# Altium footprint library SensWearComponents.PcbLib: 56 footprints (part 2 of 4)
Each footprint in its own frame and in the unit in brackets; x right, y up, seen from the top. Pads: shape width x height; smd on the part's side, far side on the other; paste and mask are expansions set on the pad; w line width, h text height; cw(c..) or ccw(c..) is an arc to the next point about the centre after c.
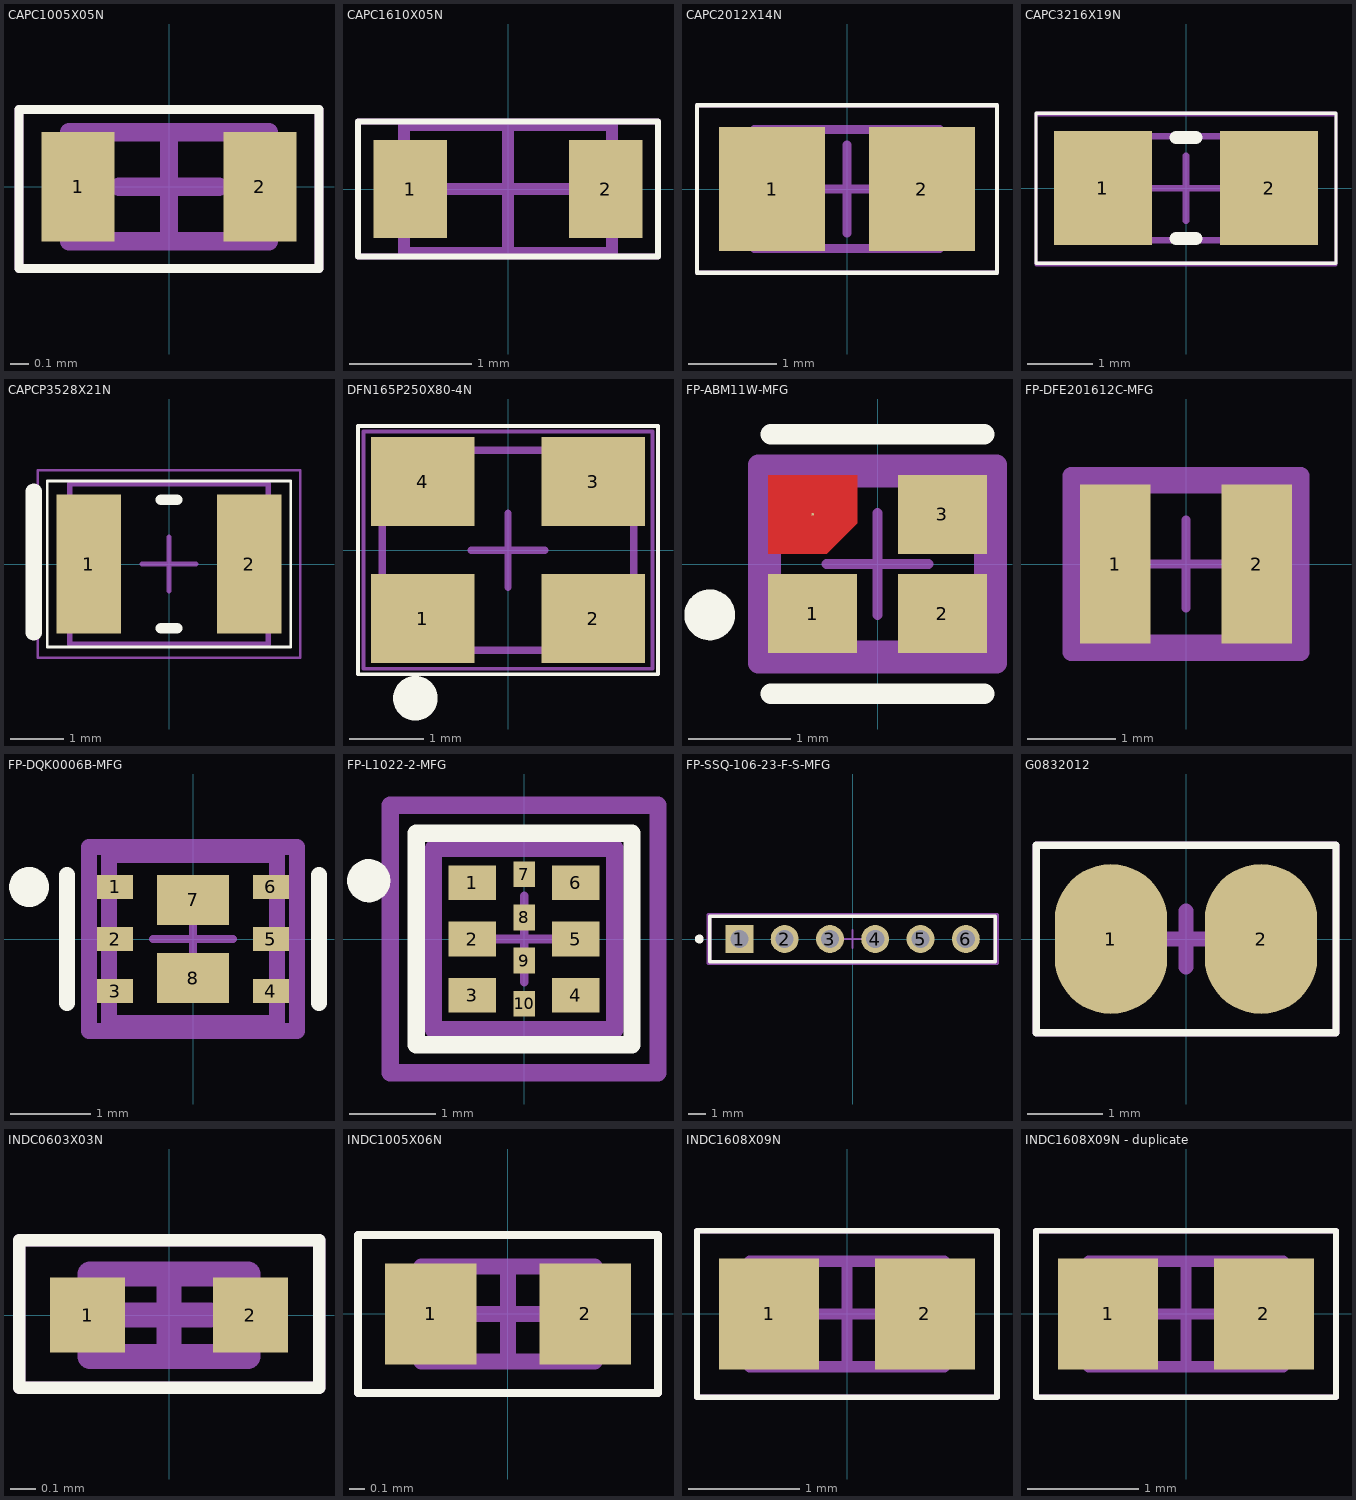
[diagram p1: the footprints below, top view; thin cyan lines are the x and y axes]

## CAPC1005X05N [mm] "Chip Capacitor, 2-Leads, Body 1.00x0.50mm, IPC Medium Density"
height 0.5
pads (2):
  rect 0.4x0.6 smd: 1(-0.5,0) 2(0.5,0)
Top Overlay:
  lines w0.05: -0.825,-0.45 -0.825,0.425 0.825,0.425 0.825,-0.45 -0.825,-0.45
Top Assembly:
  lines w0.05: -0.825,-0.45 0.825,-0.45 0.825,0.425 -0.825,0.425 -0.825,-0.45
  lines w0.1: -0.275,0 0.275,0 ; 0,-0.275 0,0.275
Top 3D Body:
  lines w0.1: -0.55,-0.3 -0.55,0.3 0.55,0.3 0.55,-0.3 -0.55,-0.3
Top Courtyard:
  lines w0.05: -0.825,-0.45 0.825,-0.45 0.825,0.425 -0.825,0.425 -0.825,-0.45
  text ".Designator" at -0.627,-0.116 h0.4
3D body "CAPC1005X06N.step": height 0.6, standoff 0, extent -0.55,-0.3 0.55,0.3

## CAPC1610X05N [mm] "Chip Capacitor, 2-Leads, Body 1.60x1.00mm, IPC Medium Density"
height 0.5
pads (2):
  rect 0.6x0.8 smd mask+0.05: 1(-0.8,0) 2(0.8,0)
Top Overlay:
  lines w0.05: -1.225,-0.55 -1.225,0.55 1.225,0.55 1.225,-0.55 -1.225,-0.55
Top Assembly:
  lines w0.05: -1.225,-0.55 1.225,-0.55 1.225,0.55 -1.225,0.55 -1.225,-0.55
  lines w0.1: -0.5,0 0.5,0 ; 0,-0.5 0,0.5
Top 3D Body:
  lines w0.1: -0.85,-0.525 -0.85,0.525 0.85,0.525 0.85,-0.525 -0.85,-0.525
Top Courtyard:
  lines w0.05: -1.225,-0.55 1.225,-0.55 1.225,0.55 -1.225,0.55 -1.225,-0.55
  text ".Designator" at -1.024,-0.113 h0.5
3D body "CAPC1610X10N.step": height 1, standoff 0, extent -0.85,-0.525 0.85,0.525

## CAPC2012X14N [mm] "Chip Capacitor, 2-Leads, Body 2.00x1.25mm, IPC Medium Density"
height 1.35
pads (2):
  rect 1.2x1.4 smd: 1(-0.85,0) 2(0.85,0)
Top Overlay:
  lines w0.05: -1.7,-0.95 1.7,-0.95 1.7,0.95 -1.7,0.95 -1.7,-0.95
Top Assembly:
  lines w0.05: -1.7,-0.95 1.7,-0.95 1.7,0.95 -1.7,0.95 -1.7,-0.95
  lines w0.1: -0.5,0 0.5,0 ; 0,-0.5 0,0.5
Top 3D Body:
  lines w0.1: -1.05,-0.675 1.05,-0.675 1.05,0.675 -1.05,0.675 -1.05,-0.675
Top Courtyard:
  lines w0.05: -1.7,-0.95 1.7,-0.95 1.7,0.95 -1.7,0.95 -1.7,-0.95
  text ".Designator" at -1.509,-0.233 h0.7
3D body "CAPC2012X14N.step": height 1.35, standoff 0, extent -1.05,-0.675 1.05,0.675

## CAPC3216X19N [mm] "Chip Capacitor, 2-Leads, Body 3.20x1.60mm, IPC Medium Density"
height 1.9
pads (2):
  rect 1.5x1.75 smd: 1(-1.275,0) 2(1.275,0)
Top Overlay:
  lines w0.05: -2.3,-1.15 -2.3,1.15 2.3,1.15 2.3,-1.15 -2.3,-1.15
  lines w0.2: -0.15,-0.775 0.15,-0.775 ; -0.15,0.775 0.15,0.775
Top Assembly:
  lines w0.05: -2.3,-1.15 2.3,-1.15 2.3,1.15 -2.3,1.15 -2.3,-1.15
  lines w0.1: -0.5,0 0.5,0 ; 0,-0.5 0,0.5
Top 3D Body:
  lines w0.1: -1.6,-0.8 -1.6,0.8 1.6,0.8 1.6,-0.8 -1.6,-0.8
Top Courtyard:
  lines w0.05: -2.3,-1.175 2.3,-1.175 2.3,1.125 -2.3,1.125 -2.3,-1.175
  text ".Designator" at -0.425,-0.25 h0.5
3D body: height 1.9, standoff 0, extent -0.6,-0.8 0.6,0.8
3D body: height 1.9, standoff 0, extent -1.6,-0.8 -0.6,0.8
3D body: height 1.9, standoff 0, extent 0.6,-0.8 1.6,0.8

## CAPCP3528X21N [mm] "Chip Capacitor, 2-Leads, Body 3.50x2.85mm, IPC Medium Density"
height 2.1
pads (2):
  rect 1.2x2.6 smd: 1(-1.5,0) 2(1.5,0)
Top Overlay:
  lines w0.05: -2.275,-1.55 -2.275,1.55 2.275,1.55 2.275,-1.55 -2.275,-1.55
  lines w0.2: -0.15,-1.2 0.15,-1.2 ; -0.15,1.2 0.15,1.2
  lines w0.3: -2.525,-1.275 -2.525,1.35
Top Assembly:
  lines w0.05: -2.45,-1.75 2.45,-1.75 2.45,1.75 -2.45,1.75 -2.45,-1.75
  lines w0.1: -0.5,0 0.5,0 ; 0,-0.5 0,0.5
Top 3D Body:
  lines w0.1: -1.85,-1.5 1.85,-1.5 1.85,1.5 -1.85,1.5 -1.85,-1.5
Top Courtyard:
  lines w0.05: -2.45,-1.75 -2.45,1.75 2.45,1.75 2.45,-1.75 -2.45,-1.75
  text ".Designator" at -2.159,-0.394 h1.52
3D body "CAPCP3528X21N.step": height 2.1, standoff 0, extent -1.85,-1.5 1.85,1.5

## DFN165P250X80-4N [mm] "DFN, 4-Leads, Body 3.20x2.50mm, Pitch 1.65mm, IPC Medium Density"
height 0.8
pads (4):
  rect 1.4x1.2 smd: 1(-1.15,-0.925) 2(1.15,-0.925) 3(1.15,0.925) 4(-1.15,0.925)
Top Overlay:
  circle w0.5: c-1.25,-2 r0.05
  lines w0.05: -2.025,-1.675 2.025,-1.675 2.025,1.675 -2.025,1.675 -2.025,-1.675
Top Assembly:
  lines w0.05: -1.95,-1.6 -1.95,1.6 1.95,1.6 1.95,-1.6 -1.95,-1.6
  lines w0.1: -0.5,0 0.5,0 ; 0,-0.5 0,0.5
Top 3D Body:
  lines w0.1: -1.7,-1.35 1.7,-1.35 1.7,1.35 -1.7,1.35 -1.7,-1.35
Top Courtyard:
  lines w0.05: -1.95,-1.6 -1.95,1.6 1.95,1.6 1.95,-1.6 -1.95,-1.6
  text ".Designator" at -0.35,-0.175 h0.4
3D body "DFN165P250X80-4N.step": height 0.8, standoff 0, extent -1.7,-1.425 1.7,1.4

## FP-ABM11W-MFG [mm]
pads (5):
  rect 0.875x0.775 smd paste+0 mask+0: 1(-0.637,-0.487) 2(0.637,-0.487) 3(0.637,0.487)
  round 0.025 smd: 4(-0.637,0.487)
  round 0.025 smd paste+0 mask+0: 4(-0.637,0.487)
Top Layer:
  region: -0.5,0.1 -0.2,0.4 -0.2,0.875 -1.075,0.875 -1.075,0.1
Top Overlay:
  circle w0.25: c-1.65,-0.5 r0.125
  lines w0.2: -1.05,-1.275 1.05,-1.275 ; -1.05,1.275 1.05,1.275
Top Assembly:
  lines w0.2: -1.175,-0.975 1.175,-0.975 1.175,0.975 -1.175,0.975 -1.175,-0.975
Top 3D Body:
  lines w0.2: -1.05,-0.85 1.05,-0.85 1.05,0.85 -1.05,0.85 -1.05,-0.85
Top Courtyard:
  lines w0.2: -1.175,-0.975 1.175,-0.975 1.175,0.975 -1.175,0.975 -1.175,-0.975
  text ".Designator" at -2.253,-0.226 h1
Top Component Center:
  lines w0.1: -0.5,0 0.5,0 ; 0,-0.5 0,0.5
3D body "ABM11W-32.0000MHZ-8-B1U-T3.STEP": height 0.5, standoff 0, extent -1,-0.8 1,0.8

## FP-DFE201612C-MFG [mm]
pads (2):
  rect 0.8x1.8 smd paste+0 mask+0: 1(-0.8,0) 2(0.8,0)
Top Assembly:
  lines w0.2: -1.3,-1 1.3,-1 1.3,1 -1.3,1 -1.3,-1
Top 3D Body:
  lines w0.2: -1.1,-0.9 1.1,-0.9 1.1,0.9 -1.1,0.9 -1.1,-0.9
Top Courtyard:
  lines w0.2: -1.3,-1 1.3,-1 1.3,1 -1.3,1 -1.3,-1
  text ".Designator" at 0,0.189 h1
Top Component Center:
  lines w0.1: -0.5,0 0.5,0 ; 0,-0.5 0,0.5
3D body "Ind_Murata_1286AS-H-1R0M=P2_eec.STEP": height 0.25, standoff 0, extent -1.3,-1 1.3,1

## FP-DQK0006B-MFG [mm]
pads (8):
  rect 0.45x0.3 smd paste+0 mask+0: 1(-0.975,0.65) 2(-0.975,0) 3(-0.975,-0.65) 4(0.975,-0.65) 5(0.975,0) 6(0.975,0.65)
  rect 0.9x0.625 smd paste-1000 mask+0: 7(0,0.488) 8(0,-0.488)
Top Overlay:
  circle w0.25: c-2.05,0.65 r0.125
  lines w0.2: -1.575,-0.8 -1.575,0.8 ; 1.575,-0.8 1.575,0.8
Top Paste:
  rectangle: -0.425,-0.783 0.425,-0.193
  rectangle: -0.425,0.193 0.425,0.783
Top Assembly:
  lines w0.2: -1.3,-1.15 1.3,-1.15 1.3,1.15 -1.3,1.15 -1.3,-1.15
  text ".Designator" at 0,0 h1
Top 3D Body:
  lines w0.2: -1.05,-1.05 1.05,-1.05 1.05,1.05 -1.05,1.05 -1.05,-1.05
Top Courtyard:
  lines w0.2: -1.3,-1.15 1.3,-1.15 1.3,1.15 -1.3,1.15 -1.3,-1.15
Top Component Center:
  lines w0.1: -0.5,0 0.5,0 ; 0,-0.5 0,0.5
3D body "IC_Texas_Instruments_CSD85301Q2_eec.STEP": height 0.25, standoff 0, extent -1.3,-1.15 1.3,1.15

## FP-L1022-2-MFG [mm]
pads (10):
  rect 0.55x0.4 smd paste+0 mask+0: 1(-0.6,0.65) 2(-0.6,0) 3(-0.6,-0.65) 4(0.6,-0.65) 5(0.6,0) 6(0.6,0.65)
  rect 0.25x0.3 smd paste+0 mask+0: 7(0,0.75) 8(0,0.25) 9(0,-0.25) 10(0,-0.75)
Top Overlay:
  circle w0.25: c-1.8,0.675 r0.125
  lines w0.2: -1.25,-1.225 -1.25,1.225 1.25,1.225 1.25,-1.225 -1.25,-1.225
Top Assembly:
  lines w0.2: -1.55,-1.55 -1.55,1.55 1.55,1.55 1.55,-1.55 -1.55,-1.55
Top 3D Body:
  lines w0.2: -1.05,-1.05 -1.05,1.05 1.05,1.05 1.05,-1.05 -1.05,-1.05
Top Courtyard:
  lines w0.2: -1.55,-1.55 1.55,-1.55 1.55,1.55 -1.55,1.55 -1.55,-1.55
  text ".Designator" at -0.6,0.189 h1
Top Component Center:
  lines w0.1: -0.5,0 0.5,0 ; 0,-0.5 0,0.5
3D body "IC_Maxim_Integrated_MAX30208CLB+T_eec.STEP": height 0.25, standoff 0, extent -1.55,-1.55 1.55,1.55

## FP-SSQ-106-23-F-S-MFG [mm]
pads (6):
  rect 1.57x1.57 hole 1.02 paste-2539.97 mask+0: 1(-6.35,0)
  round 1.57 hole 1.02 paste-2539.97 mask+0: 2(-3.81,0) 3(-1.27,0) 4(1.27,0) 5(3.81,0) 6(6.35,0)
Top Overlay:
  circle w0.25: c-8.6,0 r0.125
  lines w0.2: -8,-1.27 -8,1.27 8,1.27 8,-1.27 -8,-1.27
Mechanical 4:
  lines w0.2: -8,-1.27 -8,1.27 8,1.27 8,-1.27 -8,-1.27
Mechanical 7:
  lines w0.2: -8.1,-1.37 -8.1,1.37 8.1,1.37 8.1,-1.37 -8.1,-1.37
Mechanical 9:
  lines w0.2: -8.1,-1.37 -8.1,1.37 8.1,1.37 8.1,-1.37 -8.1,-1.37
  text ".Designator" at 0,0.189 h1
Mechanical 10:
  lines w0.1: -0.5,0 0.5,0 ; 0,-0.5 0,0.5
3D body "Conn_Samtec_SSQ-106-23-F-S_eec.STEP": height 0.25, standoff 0, extent -8.1,-1.37 8.1,1.37

## G0832012 [mm]
pads (2):
  oval 1.5x2 smd mask+0.05: 1(-1,0) 2(1,0)
Top Overlay:
  lines w0.1: -2,-1.25 2,-1.25 2,1.25 -2,1.25 -2,-1.25
Mechanical 15:
  lines w0.1: -2,-1.25 -2,1.25 2,1.25 2,-1.25 -2,-1.25
  lines w0.2: -0.375,0 0.375,0 ; 0,-0.375 0,0.375
Mechanical 29:
  lines w0.1: -2,-1.25 2,-1.25 ; -2,-1.25 2,-1.25 ; -2,-1.25 -2,1.25 ; -2,-1.25 -2,1.25 ; -2,1.25 2,1.25 ; -2,1.25 2,1.25 ; 2,-1.25 2,1.25 ; 2,-1.25 2,1.25
  text ".Designator" at -0.075,-0.125 h1.52
3D body: height 1, standoff 0, extent -1.748,-0.25 -0.251,0.253
3D body: height 1, standoff 0, extent -1.749,-0.491 -0.252,1.003
3D body: height 1, standoff 0, extent -1.75,-1 -0.25,0.5
3D body: height 1, standoff 0, extent 0.251,-0.994 1.749,0.5
3D body: height 1, standoff 0, extent 0.251,-0.491 1.748,1.003
3D body: height 1, standoff 0, extent 0.252,-0.25 1.749,0.253

## INDC0603X03N [mm] "Chip Inductor, 2-Leads, Body 0.60x0.30mm, IPC Medium Density"
height 0.33
pads (2):
  rect 0.3x0.3 smd mask+0.04: 1(-0.325,0) 2(0.325,0)
Top Overlay:
  lines w0.05: -0.6,-0.29 0.6,-0.29 0.6,0.3 -0.6,0.3 -0.6,-0.29
Top Assembly:
  lines w0.05: -0.6,-0.29 -0.6,0.3 0.6,0.3 0.6,-0.29 -0.6,-0.29
  lines w0.1: -0.165,0 0.165,0 ; 0,-0.165 0,0.165
Top 3D Body:
  lines w0.1: -0.315,-0.165 0.315,-0.165 0.315,0.165 -0.315,0.165 -0.315,-0.165
Top Courtyard:
  lines w0.05: -0.6,-0.29 -0.6,0.3 0.6,0.3 0.6,-0.29 -0.6,-0.29
  text ".Designator" at -0.575,-0.075 h0.4
3D body: height 0.33, standoff 0, extent 0.165,-0.165 0.315,0.165
3D body: height 0.33, standoff 0, extent -0.315,-0.165 -0.165,0.165
3D body: height 0.33, standoff 0, extent -0.165,-0.165 0.165,0.165

## INDC1005X06N [mm] "Chip Inductor, 2-Leads, Body 1.00x0.50mm, IPC Medium Density"
height 0.6
pads (2):
  rect 0.58x0.64 smd: 1(-0.49,0) 2(0.49,0)
Top Overlay:
  lines w0.05: -0.95,-0.5 -0.95,0.5 0.95,0.5 0.95,-0.5 -0.95,-0.5
Top Assembly:
  lines w0.05: -0.95,-0.5 0.95,-0.5 0.95,0.5 -0.95,0.5 -0.95,-0.5
  lines w0.1: -0.3,0 0.3,0 ; 0,-0.3 0,0.3
Top 3D Body:
  lines w0.1: -0.55,-0.3 -0.55,0.3 0.55,0.3 0.55,-0.3 -0.55,-0.3
Top Courtyard:
  lines w0.05: -0.95,-0.5 0.95,-0.5 0.95,0.5 -0.95,0.5 -0.95,-0.5
  text ".Designator" at -0.776,-0.081 h0.5
3D body "INDC1005X06N.step": height 0.6, standoff 0, extent -0.55,-0.3 0.55,0.3

## INDC1608X09N [mm] "Chip Inductor, 2-Leads, Body 1.60x0.80mm, IPC Medium Density"
height 0.95
pads (2):
  rect 0.9x1 smd: 1(-0.7,0) 2(0.7,0)
Top Overlay:
  lines w0.05: -1.35,-0.75 1.35,-0.75 1.35,0.75 -1.35,0.75 -1.35,-0.75
Top Assembly:
  lines w0.05: -1.35,-0.75 -1.35,0.75 1.35,0.75 1.35,-0.75 -1.35,-0.75
  lines w0.1: -0.475,0 0.475,0 ; 0,-0.475 0,0.475
Top 3D Body:
  lines w0.1: -0.875,-0.475 0.875,-0.475 0.875,0.475 -0.875,0.475 -0.875,-0.475
Top Courtyard:
  lines w0.05: -1.35,-0.75 -1.35,0.75 1.35,0.75 1.35,-0.75 -1.35,-0.75
  text ".Designator" at -0.45,-0.175 h0.4
3D body "INDC1608X09N.step": height 0.95, standoff 0, extent -0.875,-0.475 0.875,0.475

## INDC1608X09N - duplicate [mm] "Chip Inductor, 2-Leads, Body 1.60x0.80mm, IPC Medium Density"
height 0.95
pads (2):
  rect 0.9x1 smd: 1(-0.7,0) 2(0.7,0)
Top Overlay:
  lines w0.05: -1.35,-0.75 -1.35,0.75 1.35,0.75 1.35,-0.75 -1.35,-0.75
Top Assembly:
  lines w0.05: -1.35,-0.75 1.35,-0.75 1.35,0.75 -1.35,0.75 -1.35,-0.75
  lines w0.1: -0.475,0 0.475,0 ; 0,-0.475 0,0.475
Top 3D Body:
  lines w0.1: -0.875,-0.475 -0.875,0.475 0.875,0.475 0.875,-0.475 -0.875,-0.475
Top Courtyard:
  lines w0.05: -1.35,-0.75 1.35,-0.75 1.35,0.75 -1.35,0.75 -1.35,-0.75
  text ".Designator" at -0.45,-0.175 h0.4
3D body "INDC1608X09N.step": height 0.95, standoff 0, extent -0.875,-0.475 0.875,0.475